# Altium schematic symbol library Power_switches.SchLib: 1 symbol
Pins are listed as number, name and electrical type; pins without a type are passive.

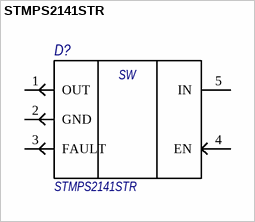
[diagram p0: symbol STMPS2141STR]

## STMPS2141STR
designator D?  Type: STMPS2141STR  (hidden comment: *)
footprint SOT23-5 (SOT23, 5-Leads, Body 2,90x2,80mm, Pitch 0,95mm, IPC Medium Density)
pins: 1 OUT, 2 GND, 3 FAULT, 4 EN, 5 IN
text: SW